# Altium schematic symbol library MCP23S17-E_SS.SchLib: 1 symbol
Pins are listed as number, name and electrical type; pins without a type are passive.

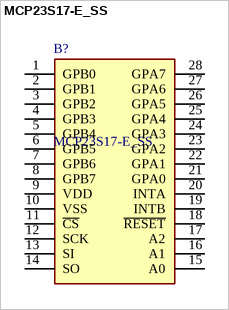
[diagram p0: symbol MCP23S17-E_SS]

## MCP23S17-E_SS
designator B?
I/O Port Expander 16-Bit SPI SSOP28; Manufacturer_Name: Microchip; Manufacturer_Part_Number: MCP23S17-E/SS; Geometry.Height: 2mm; Mouser Part Number: 579-MCP23S17-E/SS; Mouser Price/Stock: https://www.mouser.co.uk/ProductDetail/Microchip-Technology/MCP23S17-E-SS?qs=usxtMOJb1RweSOLq2FO9lA%3D%3D; Datasheet Link: https://datasheet.datasheetarchive.com/originals/distributors/SFDatasheet-4/sf-00090057.pdf
footprint SOP65P780X200-28N
pins: 1 GPB0, 2 GPB1, 3 GPB2, 4 GPB3, 5 GPB4, 6 GPB5, 7 GPB6, 8 GPB7, 9 VDD, 10 VSS, 11 ~{CS}, 12 SCK, 13 SI, 14 SO, 15 A0, 16 A1, 17 A2, 18 ~{RESET}, 19 INTB, 20 INTA, 21 GPA0, 22 GPA1, 23 GPA2, 24 GPA3, 25 GPA4, 26 GPA5, 27 GPA6, 28 GPA7